# Altium footprint library LegacySMD-SODxx.PcbLib: 23 footprints (part 2 of 2)
Each footprint in its own frame and in the unit in brackets; x right, y up, seen from the top. Pads: shape width x height; smd on the part's side, far side on the other; paste and mask are expansions set on the pad; w line width, h text height; cw(c..) or ccw(c..) is an arc to the next point about the centre after c.
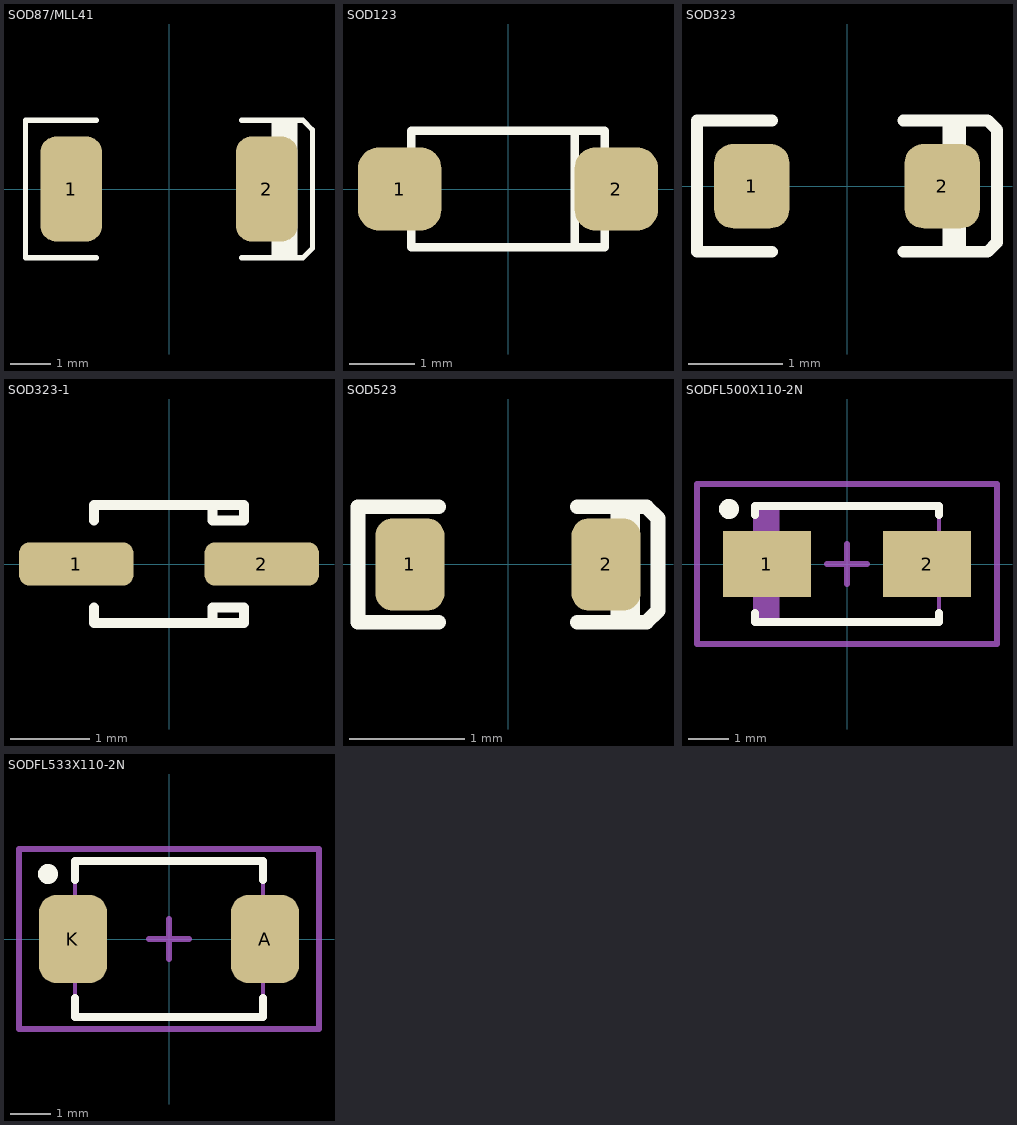
[diagram p1: the footprints below, top view; thin cyan lines are the x and y axes]

## SOD87/MLL41 [mil]
pads (2):
  rrect50% 60x102 smd: 1(-95,0) 2(95,0)
Top Overlay:
  rectangle: 100,-64.96 125,65
  lines w5: -70.87,-66.93 -139.76,-66.93 -139.76,66.93 -70.87,66.93 ; 70.87,-66.93 130.54,-66.93 139.76,-57.7 139.76,57.7 ; 70.87,66.93 130.54,66.93 139.37,57.7
3D body "MELF.STEP": height 98.43, standoff 0, extent -98.85,-49.21 98,49.21

## SOD123 [mil]
pads (2):
  rrect50% 50x50 smd: 1(-65,0) 2(65,0)
Top Overlay:
  lines w5: 40,-35 40,35 ; -58,-35 58,-35 58,35 -58,35 -58,-35
3D body "SOD-123.STEP": height 46.85, standoff -3.15, extent -77,-35.43 76.54,35.43

## SOD323 [mm]
pads (2):
  rrect50% 0.8x0.9 smd: 1(-1.016,0) 2(1.016,0)
Top Overlay:
  rectangle: 1.016,-0.762 1.27,0.7
  lines w0.127: -0.8,-0.7 -1.6,-0.7 -1.6,0.7 -0.8,0.7 ; 0.6,-0.7 1.5,-0.7 1.6,-0.6 1.6,0.6 1.5,0.7 0.6,0.7
3D body "SOD-323.STEP": height 1.1, standoff 0, extent -1.305,-0.675 1.295,0.675

## SOD323-1 [mm] "SOD-323/SC-76; 2 Leads; Body 1.7 x 1.3 mm, (LxW)"
height 1.1
pads (2):
  rrect50% 1.45x0.55 smd: 1(-1.175,0) 2(1.175,0)
Top Overlay:
  lines w0.127: -0.95,-0.55 -0.95,-0.75 0.95,-0.75 0.95,-0.55 0.55,-0.55 0.55,-0.75 ; -0.95,0.55 -0.95,0.75 0.95,0.75 0.95,0.55 0.55,0.55 0.55,0.75
3D body "SOD323.STEP": height 1.1, standoff 0, extent -1.3,-0.675 1.3,0.675

## SOD523 [mm]
pads (2):
  rrect50% 0.6x0.8 smd: 1(-0.85,0) 2(0.85,0)
Top Overlay:
  rectangle: 0.889,-0.492 1.143,0.508
  lines w0.127: -0.6,-0.5 -1.3,-0.5 -1.3,0.5 -0.6,0.5 ; 0.6,-0.5 1.2,-0.5 1.3,-0.4 1.3,0.4 1.2,0.5 0.6,0.5

## SODFL500X110-2N [mm] "SMA 2-Leads, Body 2,55x5,00mm, IPC Medium Density"
height 1.1
pads (2):
  rect 2.2x1.65 smd: 1(-2,0) 2(2,0)
Top Overlay:
  circle w0.25: c-2.95,1.375 r0.125
  lines w0.2: -2.3,-1.225 -2.3,-1.45 2.3,-1.45 2.3,-1.225 ; -2.3,1.225 -2.3,1.45 2.3,1.45 2.3,1.225
Mechanical 13:
  rectangle: -2.3,-1.45 -1.681,1.45
  lines w0.1: -2.3,-1.45 2.3,-1.45 2.3,1.45 -2.3,1.45 -2.3,-1.45
Mechanical 15:
  lines w0.15: -0.5,0 0.5,0 ; 0,-0.5 0,0.5 ; -3.75,-2 3.75,-2 3.75,2 -3.75,2 -3.75,-2
3D body "User Library-S1G-1.step": height 2.7, standoff 0, extent -2.8,-1.475 2.8,1.475

## SODFL533X110-2N [mm] "SODFL, 2-Leads, Body 3,62x5,33mm, IPC Medium Density"
height 1.1
pads (2):
  rrect50% 1.7x2.2 smd: A(2.4,0) K(-2.4,0)
Top Overlay:
  circle w0.25: c-3.025,1.625 r0.125
  lines w0.2: -2.35,-1.475 -2.35,-1.95 2.35,-1.95 2.35,-1.475 ; -2.35,1.475 -2.35,1.95 2.35,1.95 2.35,1.475
Mechanical 3:
  text ".Designator / .Comment" at -2.159,-0.762 h1.02
Mechanical 13:
  lines w0.1: -2.35,-1.97 -2.35,1.97 2.35,1.97 2.35,-1.97 -2.35,-1.97
Mechanical 15:
  lines w0.15: -0.5,0 0.5,0 ; 0,-0.5 0,0.5 ; -3.75,-2.25 -3.75,2.25 3.75,2.25 3.75,-2.25 -3.75,-2.25
3D body "SMB (DO-214AA).STEP": height 2.2, standoff -0.05, extent -2.65,-1.85 2.65,1.85